# Altium schematic symbol library TPS630xx.SchLib: 1 symbol
Pins are listed as number, name and electrical type; pins without a type are passive.

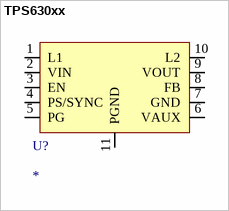
[diagram p0: symbol TPS630xx]

## TPS630xx
designator U?
footprint TPS63061 (SON, 10-Leads, Body 10.30x7.50mm, Pitch 0.50mm, Thermal Pad 1.70x1.34mm, IPC High Density)
pins: 1 L1 (power), 2 VIN, 3 EN, 4 PS/SYNC, 5 PG, 6 VAUX, 7 GND, 8 FB, 9 VOUT, 10 L2 (power), 11 PGND